# Altium footprint library samtec_lib.PcbLib: 1 footprints
Each footprint in its own frame and in the unit in brackets; x right, y up, seen from the top. Pads: shape width x height; smd on the part's side, far side on the other; paste and mask are expansions set on the pad; w line width, h text height; cw(c..) or ccw(c..) is an arc to the next point about the centre after c.
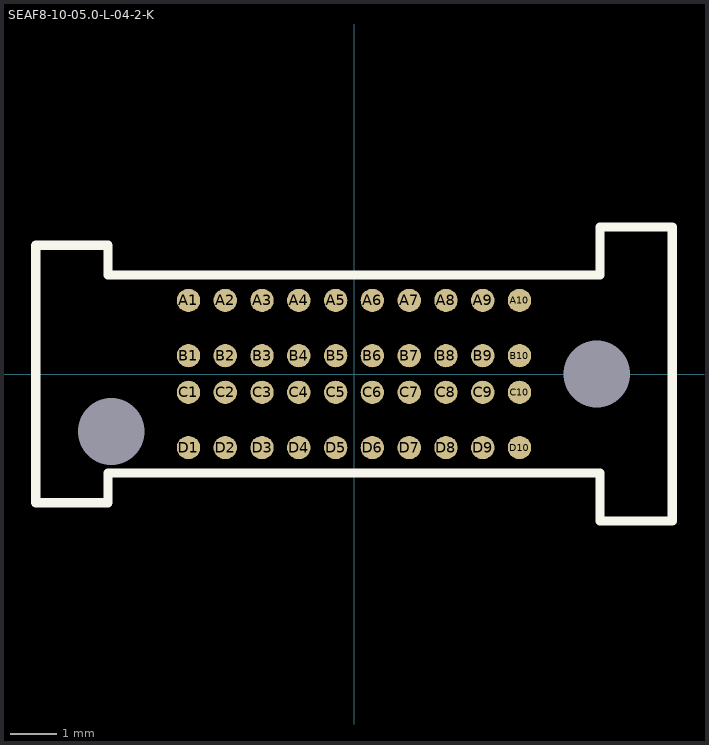
[diagram p0: the footprint, top view; thin cyan lines are the x and y axes]

## SEAF8-10-05.0-L-04-2-K [mm]
pads (42):
  round 0.508 smd paste+0.064: A1(-3.6,1.6) A2(-2.8,1.6) A3(-2,1.6) A4(-1.2,1.6) A5(-0.4,1.6) A6(0.4,1.6) A7(1.2,1.6) A8(2,1.6) A9(2.8,1.6) A10(3.6,1.6) B1(-3.6,0.4) B2(-2.8,0.4) B3(-2,0.4) B4(-1.2,0.4) B5(-0.4,0.4) B6(0.4,0.4) B7(1.2,0.4) B8(2,0.4) B9(2.8,0.4) B10(3.6,0.4) C1(-3.6,-0.4) C2(-2.8,-0.4) C3(-2,-0.4) C4(-1.2,-0.4) C5(-0.4,-0.4) C6(0.4,-0.4) C7(1.2,-0.4) C8(2,-0.4) C9(2.8,-0.4) C10(3.6,-0.4) D1(-3.6,-1.6) D2(-2.8,-1.6) D3(-2,-1.6) D4(-1.2,-1.6) D5(-0.4,-1.6) D6(0.4,-1.6) D7(1.2,-1.6) D8(2,-1.6) D9(2.8,-1.6) D10(3.6,-1.6)
  round 0 hole 1.45 mask+0.102: MNT(-5.28,-1.25) MNT(5.28,0)
Top Overlay:
  lines w0.2: -6.92,-2.8 -6.92,-2.15 -6.92,0 -6.92,2.15 -6.92,2.8 -5.35,2.8 -5.35,2.15 0,2.15 5.35,2.15 5.35,3.2 6.92,3.2 6.92,2.15 6.92,0 6.92,-2.15 6.92,-3.2 5.35,-3.2 5.35,-2.15 0,-2.15 -5.35,-2.15 -5.35,-2.8 -6.92,-2.8
3D body "SEAF8-10-05.0-L-04-2-K.stp": height 4.7, standoff -1.27, extent -6.92,-3.17 6.92,3.17